# EAGLE library part 8*C652-PLCC44 (library micro-philips)
CMOS single-chip 8-bit Microcontroller
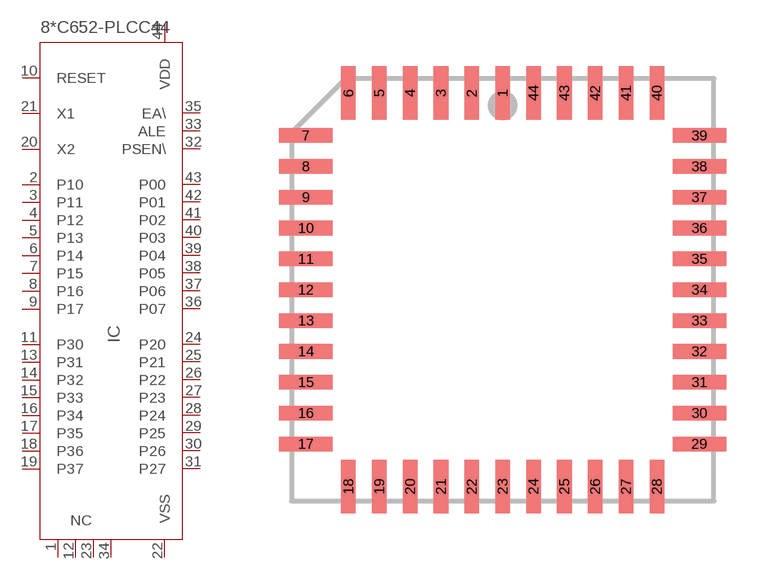
[diagram p15: symbol with the pads of PLCC44S; footprint PLCC44S]

Designator prefix IC

## 80C652-PLCC44, 83C652-PLCC44  [PLCC44S]
1  NC
2  P10
3  P11
4  P12
5  P13
6  P14
7  P15
8  P16
9  P17
10  RESET
11  P30
12  NC
13  P31
14  P32
15  P33
16  P34
17  P35
18  P36
19  P37
20  X2  out
21  X1  in
22  VSS  pwr
23  NC
24  P20
25  P21
26  P22
27  P23
28  P24
29  P25
30  P26
31  P27
32  PSEN\  out
33  ALE  out
34  NC
35  EA\  in
36  P07
37  P06
38  P05
39  P04
40  P03
41  P02
42  P01
43  P00
44  VDD  pwr

## Footprint PLCC44S (pad centres in mm)
PLASTIC LEADED CHIP CARRIER square
smd 0.6 x 2.2: 1 0,8.1; 2 -1.27,8.1; 3 -2.54,8.1; 4 -3.81,8.1; 5 -5.08,8.1; 6 -6.35,8.1; 18 -6.35,-8.1; 19 -5.08,-8.1; 20 -3.81,-8.1; 21 -2.54,-8.1; 22 -1.27,-8.1; 23 0,-8.1; 24 1.27,-8.1; 25 2.54,-8.1; 26 3.81,-8.1; 27 5.08,-8.1; 28 6.35,-8.1; 40 6.35,8.1; 41 5.08,8.1; 42 3.81,8.1; 43 2.54,8.1; 44 1.27,8.1
smd 2.2 x 0.6: 7 -8.1,6.35; 8 -8.1,5.08; 9 -8.1,3.81; 10 -8.1,2.54; 11 -8.1,1.27; 12 -8.1,0; 13 -8.1,-1.27; 14 -8.1,-2.54; 15 -8.1,-3.81; 16 -8.1,-5.08; 17 -8.1,-6.35; 29 8.1,-6.35; 30 8.1,-5.08; 31 8.1,-3.81; 32 8.1,-2.54; 33 8.1,-1.27; 34 8.1,0; 35 8.1,1.27; 36 8.1,2.54; 37 8.1,3.81; 38 8.1,5.08; 39 8.1,6.35